# Altium integrated library NSC Interface.IntLib: 481 symbols (part 1 of 16)
Pins are listed as number, name and electrical type; pins without a type are passive.

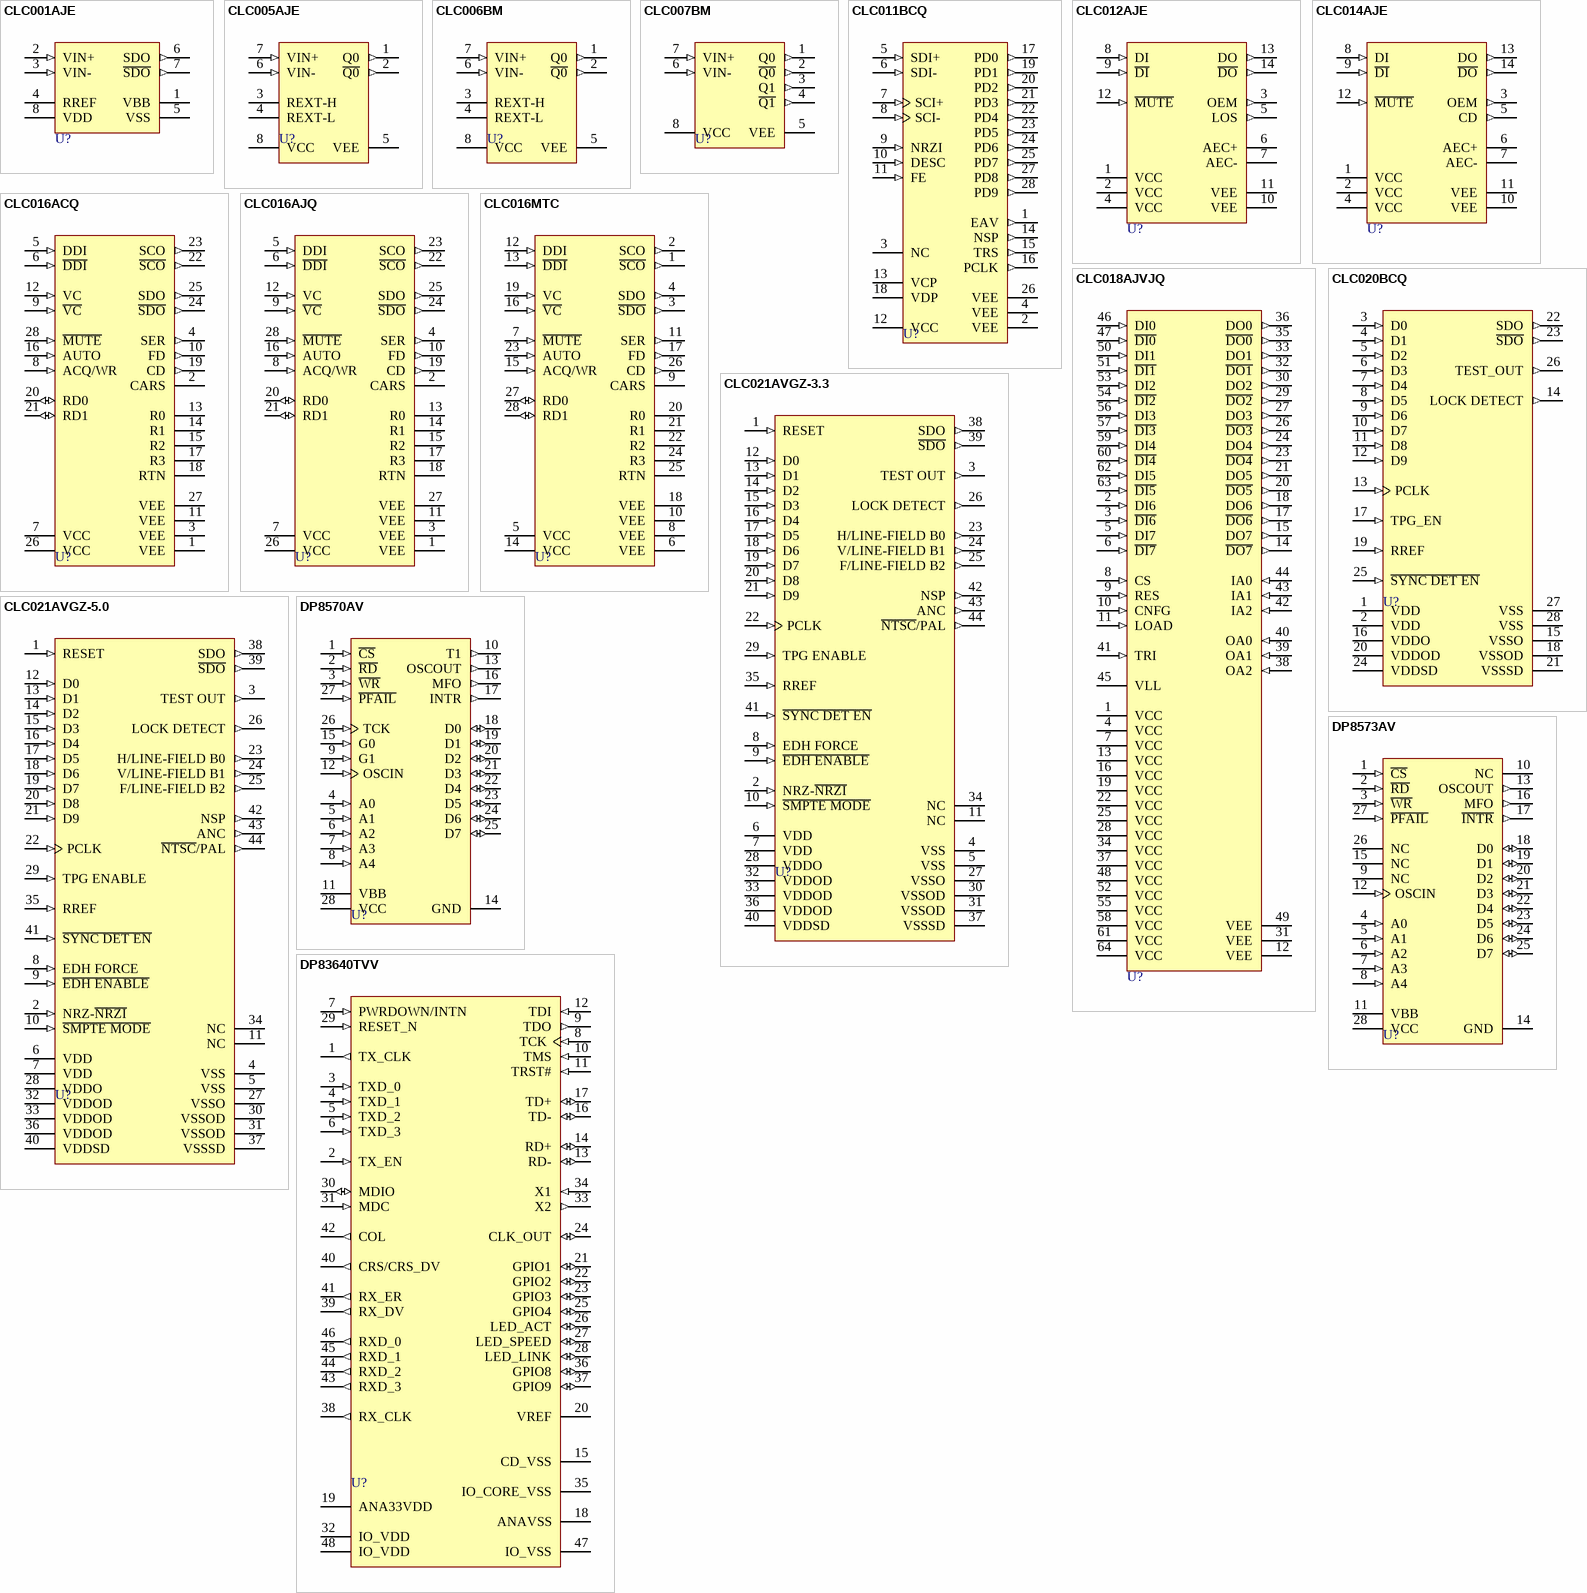
[diagram p0: symbols CLC001AJE to DP83640TVV]

## CLC001AJE
designator U?
Serial Digital Cable Driver with Adjustable Outputs; PartNumber: CLC001AJE; Manufacturer: National Semiconductor; CompType: Interface IC; PackageTopMarking: NSZXTT*CLC00*1AJE; Published: 4-Dec-2008; DatasheetVersion: Feb-2006; PackageVersion: revL, Sep-2006; PackageReference: M08A; Publisher: Altium Limited; PackageDescription: SOIC Narrow, 4.9 x 3.9 x 1.45mm, 8 Lead, 1.27mm Pitch; RoHS: O; PinCount: 8; DigiKeyPartNumber: CLC001AJE-ND; Code_JEDEC: MS-012-AA; Code_IPC: SOIC127P600-8; ComponentLink1Description: CLC001 Datasheet; ComponentLink1URL: http://www.national.com/ds/CL/CLC001.pdf; ComponentLink2Description: CLC001 Web Page; ComponentLink2URL: http://www.national.com/pf/CL/CLC001.html; ComponentLink3Description: M08A Package Page; ComponentLink3URL: http://www.national.com/packaging/folders/m08a.html
footprint M08A_N (SOIC, 8-Leads, Body 4.9x3.9mm, Pitch 1.27mm, IPC Medium Density)
footprint M08A_L (SOIC, 8-Leads, Body 4.9x3.9mm, Pitch 1.27mm, IPC High Density)
footprint M08A_M (SOIC, 8-Leads, Body 4.9x3.9mm, Pitch 1.27mm, IPC Low Density)
pins: 1 VBB (power), 2 VIN+ (in), 3 VIN- (in), 4 RREF, 5 VSS (power), 6 SDO (out), 7 ~{SDO} (out), 8 VDD (power)

## CLC005AJE
designator U?
ITU-T G.703 Cable Driver with Adjustable Outputs; PartNumber: CLC005AJE; Manufacturer: National Semiconductor; CompType: Interface IC; PackageTopMarking: NSZXTT*CLC00*5AJE; Published: 4-Dec-2008; DatasheetVersion: Aug-1998; PackageVersion: revL, Sep-2006; PackageReference: M08A; Publisher: Altium Limited; PackageDescription: SOIC Narrow, 4.9 x 3.9 x 1.45mm, 8 Lead, 1.27mm Pitch; RoHS: O; PinCount: 8; DigiKeyPartNumber: CLC005AJE-ND; Code_JEDEC: MS-012-AA; Code_IPC: SOIC127P600-8; ComponentLink1Description: CLC005 Datasheet; ComponentLink1URL: http://www.national.com/ds/CL/CLC005.pdf; ComponentLink2Description: CLC005 Web Page; ComponentLink2URL: http://www.national.com/pf/CL/CLC005.html; ComponentLink3Description: M08A Package Page; ComponentLink3URL: http://www.national.com/packaging/folders/m08a.html
footprint M08A_N (SOIC, 8-Leads, Body 4.9x3.9mm, Pitch 1.27mm, IPC Medium Density)
footprint M08A_L (SOIC, 8-Leads, Body 4.9x3.9mm, Pitch 1.27mm, IPC High Density)
footprint M08A_M (SOIC, 8-Leads, Body 4.9x3.9mm, Pitch 1.27mm, IPC Low Density)
pins: 1 Q0 (out), 2 ~{Q0} (out), 3 REXT-H, 4 REXT-L, 5 VEE (power), 6 VIN- (in), 7 VIN+ (in), 8 VCC (power)

## CLC006BM
designator U?
Serial Digital Cable Driver with Adjustable Outputs; PartNumber: CLC006BM; Manufacturer: National Semiconductor; CompType: Interface IC; PackageTopMarking: NSZXTT*CLC00*6BMDD; Published: 4-Dec-2008; DatasheetVersion: Oct-2007; PackageVersion: revL, Sep-2006; PackageReference: M08A; Publisher: Altium Limited; PackageDescription: SOIC Narrow, 4.9 x 3.9 x 1.45mm, 8 Lead, 1.27mm Pitch; RoHS: O; PinCount: 8; Code_JEDEC: MS-012-AA; Code_IPC: SOIC127P600-8; ComponentLink1Description: CLC006 Datasheet; ComponentLink1URL: http://www.national.com/ds/CL/CLC006.pdf; ComponentLink2Description: CLC006 Web Page; ComponentLink2URL: http://www.national.com/pf/CL/CLC006.html; ComponentLink3Description: M08A Package Page; ComponentLink3URL: http://www.national.com/packaging/folders/m08a.html
footprint M08A_N (SOIC, 8-Leads, Body 4.9x3.9mm, Pitch 1.27mm, IPC Medium Density)
footprint M08A_L (SOIC, 8-Leads, Body 4.9x3.9mm, Pitch 1.27mm, IPC High Density)
footprint M08A_M (SOIC, 8-Leads, Body 4.9x3.9mm, Pitch 1.27mm, IPC Low Density)
pins: 1 Q0 (out), 2 ~{Q0} (out), 3 REXT-H, 4 REXT-L, 5 VEE (power), 6 VIN- (in), 7 VIN+ (in), 8 VCC (power)

## CLC007BM
designator U?
Serial Digital Cable Driver with Dual Complementary Outputs; PartNumber: CLC007BM; Manufacturer: National Semiconductor; CompType: Interface IC; PackageTopMarking: NSZXTT*CLC00*7BMDD; Published: 4-Dec-2008; DatasheetVersion: Oct-2007; PackageVersion: revL, Sep-2006; PackageReference: M08A; Publisher: Altium Limited; PackageDescription: SOIC Narrow, 4.9 x 3.9 x 1.45mm, 8 Lead, 1.27mm Pitch; RoHS: O; PinCount: 8; DigiKeyPartNumber: CLC007BM-ND; Code_JEDEC: MS-012-AA; Code_IPC: SOIC127P600-8; ComponentLink1Description: CLC007 Datasheet; ComponentLink1URL: http://www.national.com/ds/CL/CLC007.pdf; ComponentLink2Description: CLC007 Web Page; ComponentLink2URL: http://www.national.com/pf/CL/CLC007.html; ComponentLink3Description: M08A Package Page; ComponentLink3URL: http://www.national.com/packaging/folders/m08a.html
footprint M08A_N (SOIC, 8-Leads, Body 4.9x3.9mm, Pitch 1.27mm, IPC Medium Density)
footprint M08A_L (SOIC, 8-Leads, Body 4.9x3.9mm, Pitch 1.27mm, IPC High Density)
footprint M08A_M (SOIC, 8-Leads, Body 4.9x3.9mm, Pitch 1.27mm, IPC Low Density)
pins: 1 Q0 (out), 2 ~{Q0} (out), 3 Q1 (out), 4 ~{Q1} (out), 5 VEE (power), 6 VIN- (in), 7 VIN+ (in), 8 VCC (power)

## CLC011BCQ
designator U?
Serial Digital Video Decoder; PartNumber: CLC011BCQ; Manufacturer: National Semiconductor; CompType: Interface IC; PackageTopMarking: NSUZXYYTT*CLC011BCQ; Published: 4-Dec-2008; DatasheetVersion: Jul-2002; PackageVersion: revK, Dec-1993; PackageReference: V28A; Publisher: Altium Limited; PackageDescription: Plastic Chip Carrier, Sq., .050mil Lead Pitch, 28 Lead; RoHS: O; PinCount: 28; DigiKeyPartNumber: CLC011BCQ-ND; Code_IPC: PLCC-28; ComponentLink1Description: CLC011 Datasheet; ComponentLink1URL: http://www.national.com/ds/CL/CLC011.pdf; ComponentLink2Description: CLC011 Web Page; ComponentLink2URL: http://www.national.com/pf/CL/CLC011.html; ComponentLink3Description: V28A Package Page; ComponentLink3URL: http://www.national.com/packaging/folders/v28a.html
footprint V28A_N (Leaded Chip Carrier, 28-Leads, Body 11.5x11.5mm, Pitch 1.27mm, IPC Medium Density)
footprint V28A_L (Leaded Chip Carrier, 28-Leads, Body 11.5x11.5mm, Pitch 1.27mm, IPC High Density)
footprint V28A_M (Leaded Chip Carrier, 28-Leads, Body 11.5x11.5mm, Pitch 1.27mm, IPC Low Density)
pins: 1 EAV (out), 2 VEE (power), 3 NC, 4 VEE (power), 5 SDI+ (in), 6 SDI- (in), 7 SCI+ (in), 8 SCI- (in), 9 NRZI (in), 10 DESC (in), 11 FE (in), 12 VCC (power), 13 VCP (power), 14 NSP (out), 15 TRS (out), 16 PCLK (out), 17 PD0 (out), 18 VDP (power), 19 PD1 (out), 20 PD2 (out), 21 PD3 (out), 22 PD4 (out), 23 PD5 (out), 24 PD6 (out), 25 PD7 (out), 26 VEE (power), 27 PD8 (out), 28 PD9 (out)

## CLC012AJE
designator U?
Adaptive Cable Equalizer for ITU-T G.703 Data Recovery; PartNumber: CLC012AJE; Manufacturer: National Semiconductor; CompType: Interface IC; PackageTopMarking: NSUZXYTT*CLC012AJE; Published: 4-Dec-2008; DatasheetVersion: Nov-2003; PackageVersion: revJ, Jan-1996; PackageReference: M14A; Publisher: Altium Limited; PackageDescription: Molded Package, S.O., .150in Wide, 14 Lead; RoHS: O; PinCount: 14; DigiKeyPartNumber: CLC012AJE-ND; Code_JEDEC: MS-012AB; Code_IPC: SOIC127P600-14; ComponentLink1Description: CLC012 Datasheet; ComponentLink1URL: http://www.national.com/ds/CL/CLC012.pdf; ComponentLink2Description: CLC012 Web Page; ComponentLink2URL: http://www.national.com/pf/CL/CLC012.html; ComponentLink3Description: M14A Package Page; ComponentLink3URL: http://www.national.com/packaging/folders/m14a.html
footprint M14A_N (SOIC, 14-Leads, Body 8.6x3.9mm, Pitch 1.27mm, IPC Medium Density)
footprint M14A_L (SOIC, 14-Leads, Body 8.6x3.9mm, Pitch 1.27mm, IPC High Density)
footprint M14A_M (SOIC, 14-Leads, Body 8.6x3.9mm, Pitch 1.27mm, IPC Low Density)
pins: 1 VCC (power), 2 VCC (power), 3 OEM (out), 4 VCC (power), 5 LOS (out), 6 AEC+, 7 AEC-, 8 DI (in), 9 ~{DI} (in), 10 VEE (power), 11 VEE (power), 12 ~{MUTE} (in), 13 DO (out), 14 ~{DO} (out)

## CLC014AJE
designator U?
Adaptive Cable Equalizer for High Speed Data Recovery; PartNumber: CLC014AJE; Manufacturer: National Semiconductor; CompType: Interface IC; PackageTopMarking: NSUZXYTT*CLC014AJE; Published: 4-Dec-2008; DatasheetVersion: Aug-2003; PackageVersion: revJ, Jan-1996; PackageReference: M14A; Publisher: Altium Limited; PackageDescription: Molded Package, S.O., .150in Wide, 14 Lead; RoHS: O; PinCount: 14; DigiKeyPartNumber: CLC014AJE-ND; Code_JEDEC: MS-012AB; Code_IPC: SOIC127P600-14; ComponentLink1Description: CLC014 Datasheet; ComponentLink1URL: http://www.national.com/ds/CL/CLC014.pdf; ComponentLink2Description: CLC014 Web Page; ComponentLink2URL: http://www.national.com/pf/CL/CLC014.html; ComponentLink3Description: M14A Package Page; ComponentLink3URL: http://www.national.com/packaging/folders/m14a.html
footprint M14A_N (SOIC, 14-Leads, Body 8.6x3.9mm, Pitch 1.27mm, IPC Medium Density)
footprint M14A_L (SOIC, 14-Leads, Body 8.6x3.9mm, Pitch 1.27mm, IPC High Density)
footprint M14A_M (SOIC, 14-Leads, Body 8.6x3.9mm, Pitch 1.27mm, IPC Low Density)
pins: 1 VCC (power), 2 VCC (power), 3 OEM (out), 4 VCC (power), 5 CD (out), 6 AEC+, 7 AEC-, 8 DI (in), 9 ~{DI} (in), 10 VEE (power), 11 VEE (power), 12 ~{MUTE} (in), 13 DO (out), 14 ~{DO} (out)

## CLC016ACQ
designator U?
Data Retiming PLL with Automatic Rate Selection; PartNumber: CLC016ACQ; Manufacturer: National Semiconductor; CompType: Interface IC; PackageTopMarking: NSUZXYYTT*CLC016ACQ; Published: 4-Dec-2008; DatasheetVersion: Jul-2002; PackageVersion: revK, Dec-1993; PackageReference: V28A; Publisher: Altium Limited; PackageDescription: Plastic Chip Carrier, Sq., .050mil Lead Pitch, 28 Lead; RoHS: O; PinCount: 28; DigiKeyPartNumber: CLC016ACQ-ND; Code_IPC: PLCC-28; ComponentLink1Description: CLC016 Datasheet; ComponentLink1URL: http://www.national.com/ds/CL/CLC016.pdf; ComponentLink2Description: CLC016 Web Page; ComponentLink2URL: http://www.national.com/pf/CL/CLC016.html; ComponentLink3Description: V28A Package Page; ComponentLink3URL: http://www.national.com/packaging/folders/v28a.html
footprint V28A_N (Leaded Chip Carrier, 28-Leads, Body 11.5x11.5mm, Pitch 1.27mm, IPC Medium Density)
footprint V28A_L (Leaded Chip Carrier, 28-Leads, Body 11.5x11.5mm, Pitch 1.27mm, IPC High Density)
footprint V28A_M (Leaded Chip Carrier, 28-Leads, Body 11.5x11.5mm, Pitch 1.27mm, IPC Low Density)
pins: 1 VEE (power), 2 CARS, 3 VEE (power), 4 SER (out), 5 DDI (in), 6 ~{DDI} (in), 7 VCC (power), 8 ACQ/WR (in), 9 ~{VC} (in), 10 FD (out), 11 VEE (power), 12 VC (in), 13 R0, 14 R1, 15 R2, 16 AUTO (in), 17 R3, 18 RTN, 19 CD (out), 20 RD0 (io), 21 RD1 (io), 22 ~{SCO} (out), 23 SCO (out), 24 ~{SDO} (out), 25 SDO (out), 26 VCC (power), 27 VEE (power), 28 ~{MUTE} (in)

## CLC016AJQ
designator U?
Data Retiming PLL with Automatic Rate Selection; PartNumber: CLC016AJQ; Manufacturer: National Semiconductor; CompType: Interface IC; PackageTopMarking: NSUZXYYTT*CLC016AJQ; Published: 4-Dec-2008; DatasheetVersion: Jul-2002; PackageVersion: revK, Dec-1993; PackageReference: V28A; Publisher: Altium Limited; PackageDescription: Plastic Chip Carrier, Sq., .050mil Lead Pitch, 28 Lead; RoHS: O; PinCount: 28; DigiKeyPartNumber: CLC016AJQ-ND; Code_IPC: PLCC-28; ComponentLink1Description: CLC016 Datasheet; ComponentLink1URL: http://www.national.com/ds/CL/CLC016.pdf; ComponentLink2Description: CLC016 Web Page; ComponentLink2URL: http://www.national.com/pf/CL/CLC016.html; ComponentLink3Description: V28A Package Page; ComponentLink3URL: http://www.national.com/packaging/folders/v28a.html
footprint V28A_N (Leaded Chip Carrier, 28-Leads, Body 11.5x11.5mm, Pitch 1.27mm, IPC Medium Density)
footprint V28A_L (Leaded Chip Carrier, 28-Leads, Body 11.5x11.5mm, Pitch 1.27mm, IPC High Density)
footprint V28A_M (Leaded Chip Carrier, 28-Leads, Body 11.5x11.5mm, Pitch 1.27mm, IPC Low Density)
pins: 1 VEE (power), 2 CARS, 3 VEE (power), 4 SER (out), 5 DDI (in), 6 ~{DDI} (in), 7 VCC (power), 8 ACQ/WR (in), 9 ~{VC} (in), 10 FD (out), 11 VEE (power), 12 VC (in), 13 R0, 14 R1, 15 R2, 16 AUTO (in), 17 R3, 18 RTN, 19 CD (out), 20 RD0 (io), 21 RD1 (io), 22 ~{SCO} (out), 23 SCO (out), 24 ~{SDO} (out), 25 SDO (out), 26 VCC (power), 27 VEE (power), 28 ~{MUTE} (in)

## CLC016MTC
designator U?
Data Retiming PLL with Automatic Rate Selection; PartNumber: CLC016MTC; Manufacturer: National Semiconductor; CompType: Interface IC; PackageTopMarking: NSUZXYTT*CLC016MTC; Published: 4-Dec-2008; DatasheetVersion: Jul-2002; PackageVersion: revD, Jan-2005; PackageReference: MTC28; Publisher: Altium Limited; PackageDescription: Molded TSSOP, Jedec, 9.7 x 4.4 x 0.9mm Body, 28 Lead, 0.65mm Pitch; RoHS: O; PinCount: 28; DigiKeyPartNumber: CLC016MTC-ND; Code_JEDEC: MO-153-AE; ComponentLink1Description: CLC016 Datasheet; ComponentLink1URL: http://www.national.com/ds/CL/CLC016.pdf; ComponentLink2Description: CLC016 Web Page; ComponentLink2URL: http://www.national.com/pf/CL/CLC016.html; ComponentLink3Description: MTC28 Package Page; ComponentLink3URL: http://www.national.com/packaging/folders/mtc28.html
footprint MTC28_N (TSOP, 28-Leads, Body 9.7x4.4mm, Pitch 0.65mm, IPC Medium Density)
footprint MTC28_L (TSOP, 28-Leads, Body 9.7x4.4mm, Pitch 0.65mm, IPC High Density)
footprint MTC28_M (TSOP, 28-Leads, Body 9.7x4.4mm, Pitch 0.65mm, IPC Low Density)
pins: 1 ~{SCO} (out), 2 SCO (out), 3 ~{SDO} (out), 4 SDO (out), 5 VCC (power), 6 VEE (power), 7 ~{MUTE} (in), 8 VEE (power), 9 CARS, 10 VEE (power), 11 SER (out), 12 DDI (in), 13 ~{DDI} (in), 14 VCC (power), 15 ACQ/WR (in), 16 ~{VC} (in), 17 FD (out), 18 VEE (power), 19 VC (in), 20 R0, 21 R1, 22 R2, 23 AUTO (in), 24 R3, 25 RTN, 26 CD (out), 27 RD0 (io), 28 RD1 (io)

## CLC018AJVJQ
designator U?
8x8 Digital Crosspoint Switch, 1.4 Gbps; PartNumber: CLC018AJVJQ; Manufacturer: National Semiconductor; CompType: Interface IC; PackageTopMarking: NSUZXYYTT*CLC018AJVJQ; Published: 4-Dec-2008; DatasheetVersion: Aug-2006; PackageVersion: Oct-1998; PackageReference: VJE64A; Publisher: Altium Limited; PackageDescription: LQFP, Jedec, Metric, 14 x 14 x 2.4mm, 64 Lead; RoHS: O; PinCount: 64; DigiKeyPartNumber: CLC018AJVJQ-ND; Code_IPC: QFP80P1720X1720-64; ComponentLink1Description: CLC018 Datasheet; ComponentLink1URL: http://www.national.com/ds/CL/CLC018.pdf; ComponentLink2Description: CLC018 Web Page; ComponentLink2URL: http://www.national.com/pf/CL/CLC018.html; ComponentLink3Description: VJE64A Package Page; ComponentLink3URL: http://www.national.com/packaging/folders/vjq64a.html
footprint VJE64A_N (QFP, 64-Leads, Body 14x14mm, Pitch 0.8mm, IPC Medium Density)
footprint VJE64A_L (QFP, 64-Leads, Body 14x14mm, Pitch 0.8mm, IPC High Density)
footprint VJE64A_M (QFP, 64-Leads, Body 14x14mm, Pitch 0.8mm, IPC Low Density)
pins: 1 VCC (power), 2 DI6 (in), 3 ~{DI6} (in), 4 VCC (power), 5 DI7 (in), 6 ~{DI7} (in), 7 VCC (power), 8 CS (in), 9 RES (in), 10 CNFG (in), 11 LOAD (in), 12 VEE (power), 13 VCC (power), 14 ~{DO7} (out), 15 DO7 (out), 16 VCC (power), 17 ~{DO6} (out), 18 DO6 (out), 19 VCC (power), 20 ~{DO5} (out), 21 DO5 (out), 22 VCC (power), 23 ~{DO4} (out), 24 DO4 (out), 25 VCC (power), 26 ~{DO3} (out), 27 DO3 (out), 28 VCC (power), 29 ~{DO2} (out), 30 DO2 (out), 31 VEE (power), 32 ~{DO1} (out), 33 DO1 (out), 34 VCC (power), 35 ~{DO0} (out), 36 DO0 (out), 37 VCC (power), 38 OA2 (in), 39 OA1 (in), 40 OA0 (in), 41 TRI (in), 42 IA2 (in), 43 IA1 (in), 44 IA0 (in), 45 VLL (power), 46 DI0 (in), 47 ~{DI0} (in), 48 VCC (power), 49 VEE (power), 50 DI1 (in), 51 ~{DI1} (in), 52 VCC (power), 53 DI2 (in), 54 ~{DI2} (in), 55 VCC (power), 56 DI3 (in), 57 ~{DI3} (in), 58 VCC (power), 59 DI4 (in), 60 ~{DI4} (in), 61 VCC (power), 62 DI5 (in), 63 ~{DI5} (in), 64 VCC (power)

## CLC020BCQ
designator U?
SMPTE 259M Digital Video Serializer with Integrated Cable Driver; PartNumber: CLC020BCQ; Manufacturer: National Semiconductor; CompType: Interface IC; PackageTopMarking: NSUZXYYTT*CLC020BCQ; Published: 4-Dec-2008; DatasheetVersion: Jul-2003; PackageVersion: revK, Dec-1993; PackageReference: V28A; Publisher: Altium Limited; PackageDescription: Plastic Chip Carrier, Sq., .050mil Lead Pitch, 28 Lead; RoHS: O; PinCount: 28; DigiKeyPartNumber: CLC020BCQ-ND; Code_IPC: PLCC-28; ComponentLink1Description: CLC020 Datasheet; ComponentLink1URL: http://www.national.com/ds/CL/CLC020.pdf; ComponentLink2Description: CLC020 Web Page; ComponentLink2URL: http://www.national.com/pf/CL/CLC020.html; ComponentLink3Description: V28A Package Page; ComponentLink3URL: http://www.national.com/packaging/folders/v28a.html
footprint V28A_N (Leaded Chip Carrier, 28-Leads, Body 11.5x11.5mm, Pitch 1.27mm, IPC Medium Density)
footprint V28A_L (Leaded Chip Carrier, 28-Leads, Body 11.5x11.5mm, Pitch 1.27mm, IPC High Density)
footprint V28A_M (Leaded Chip Carrier, 28-Leads, Body 11.5x11.5mm, Pitch 1.27mm, IPC Low Density)
pins: 1 VDD (power), 2 VDD (power), 3 D0 (in), 4 D1 (in), 5 D2 (in), 6 D3 (in), 7 D4 (in), 8 D5 (in), 9 D6 (in), 10 D7 (in), 11 D8 (in), 12 D9 (in), 13 PCLK (in), 14 LOCK DETECT (out), 15 VSSO (power), 16 VDDO (power), 17 TPG_EN (in), 18 VSSOD (power), 19 RREF (in), 20 VDDOD (power), 21 VSSSD (power), 22 SDO (out), 23 ~{SDO} (out), 24 VDDSD (power), 25 ~{SYNC DET EN} (in), 26 TEST_OUT (out), 27 VSS (power), 28 VSS (power)

## CLC021AVGZ-3.3
designator U?
SMPTE 259M Digital Video Serializer with EDH Generation/Insertion; PartNumber: CLC021AVGZ-3.3; Manufacturer: National Semiconductor; CompType: Interface IC; PackageTopMarking: NSUZXYYTT*CLC021A*VGZ-3.3; Published: 4-Dec-2008; DatasheetVersion: Jul-2003; PackageVersion: revE, Feb-2003; PackageReference: VGZ44A; Publisher: Altium Limited; PackageDescription: PQFP, JEDEC Metric, (S), 10 x 10 x 2.0mm Body, 44 Lead; RoHS: O; PinCount: 44; DigiKeyPartNumber: CLC021AVGZ-3.3-ND; Code_JEDEC: MO-108-AA-1; Code_IPC: QFP80P1320X1320-44; ComponentLink1Description: CLC021 Datasheet; ComponentLink1URL: http://www.national.com/ds/CL/CLC021.pdf; ComponentLink2Description: CLC021 Web Page; ComponentLink2URL: http://www.national.com/pf/CL/CLC021.html; ComponentLink3Description: VGZ44A Package Page; ComponentLink3URL: http://www.national.com/packaging/folders/vgz44a.html
footprint VGZ44A_N (QFP, 44-Leads, Body 10x10mm, Pitch 0.8mm, IPC Medium Density)
footprint VGZ44A_L (QFP, 44-Leads, Body 10x10mm, Pitch 0.8mm, IPC High Density)
footprint VGZ44A_M (QFP, 44-Leads, Body 10x10mm, Pitch 0.8mm, IPC Low Density)
pins: 1 RESET (in), 2 NRZ-~{NRZI} (in), 3 TEST OUT (out), 4 VSS (power), 5 VSS (power), 6 VDD (power), 7 VDD (power), 8 EDH FORCE (in), 9 ~{EDH ENABLE} (in), 10 ~{SMPTE MODE} (in), 11 NC, 12 D0 (in), 13 D1 (in), 14 D2 (in), 15 D3 (in), 16 D4 (in), 17 D5 (in), 18 D6 (in), 19 D7 (in), 20 D8 (in), 21 D9 (in), 22 PCLK (in), 23 H/LINE-FIELD B0 (out), 24 V/LINE-FIELD B1 (out), 25 F/LINE-FIELD B2 (out), 26 LOCK DETECT (out), 27 VSSO (power), 28 VDDO (power), 29 TPG ENABLE (in), 30 VSSOD (power), 31 VSSOD (power), 32 VDDOD (power), 33 VDDOD (power), 34 NC, 35 RREF (in), 36 VDDOD (power), 37 VSSSD (power), 38 SDO (out), 39 ~{SDO} (out), 40 VDDSD (power), 41 ~{SYNC DET EN} (in), 42 NSP (out), 43 ANC (out), 44 ~{NTSC}/PAL (out)

## CLC021AVGZ-5.0
designator U?
SMPTE 259M Digital Video Serializer with EDH Generation/Insertion; PartNumber: CLC021AVGZ-5.0; Manufacturer: National Semiconductor; CompType: Interface IC; PackageTopMarking: NSUZXYYTT*CLC021A*VGZ-5.0; Published: 4-Dec-2008; DatasheetVersion: Jul-2003; PackageVersion: revE, Feb-2003; PackageReference: VGZ44A; Publisher: Altium Limited; PackageDescription: PQFP, JEDEC Metric, (S), 10 x 10 x 2.0mm Body, 44 Lead; RoHS: Y; PinCount: 44; DigiKeyPartNumber: CLC021AVGZ-5.0-ND; Code_JEDEC: MO-108-AA-1; Code_IPC: QFP80P1320X1320-44; ComponentLink1Description: CLC021 Datasheet; ComponentLink1URL: http://www.national.com/ds/CL/CLC021.pdf; ComponentLink2Description: CLC021 Web Page; ComponentLink2URL: http://www.national.com/pf/CL/CLC021.html; ComponentLink3Description: VGZ44A Package Page; ComponentLink3URL: http://www.national.com/packaging/folders/vgz44a.html
footprint VGZ44A_N (QFP, 44-Leads, Body 10x10mm, Pitch 0.8mm, IPC Medium Density)
footprint VGZ44A_L (QFP, 44-Leads, Body 10x10mm, Pitch 0.8mm, IPC High Density)
footprint VGZ44A_M (QFP, 44-Leads, Body 10x10mm, Pitch 0.8mm, IPC Low Density)
pins: 1 RESET (in), 2 NRZ-~{NRZI} (in), 3 TEST OUT (out), 4 VSS (power), 5 VSS (power), 6 VDD (power), 7 VDD (power), 8 EDH FORCE (in), 9 ~{EDH ENABLE} (in), 10 ~{SMPTE MODE} (in), 11 NC, 12 D0 (in), 13 D1 (in), 14 D2 (in), 15 D3 (in), 16 D4 (in), 17 D5 (in), 18 D6 (in), 19 D7 (in), 20 D8 (in), 21 D9 (in), 22 PCLK (in), 23 H/LINE-FIELD B0 (out), 24 V/LINE-FIELD B1 (out), 25 F/LINE-FIELD B2 (out), 26 LOCK DETECT (out), 27 VSSO (power), 28 VDDO (power), 29 TPG ENABLE (in), 30 VSSOD (power), 31 VSSOD (power), 32 VDDOD (power), 33 VDDOD (power), 34 NC, 35 RREF (in), 36 VDDOD (power), 37 VSSSD (power), 38 SDO (out), 39 ~{SDO} (out), 40 VDDSD (power), 41 ~{SYNC DET EN} (in), 42 NSP (out), 43 ANC (out), 44 ~{NTSC}/PAL (out)

## DP8570AV
designator U?
Timer Control Peripheral (TCP); PartNumber: DP8570AV; Manufacturer: National Semiconductor; CompType: Interface IC; PackageTopMarking: NSUZXYYTT*DP8570AV; Published: 4-Dec-2008; DatasheetVersion: May-1993; PackageVersion: revK, Dec-1993; PackageReference: V28A; Publisher: Altium Limited; PackageDescription: Plastic Chip Carrier, Sq., .050mil Lead Pitch, 28 Lead; RoHS: O; PinCount: 28; DigiKeyPartNumber: DP8570AV-ND; Code_IPC: PLCC-28; ComponentLink1Description: DP8570A Datasheet; ComponentLink1URL: http://www.national.com/ds/DP/DP8570A.pdf; ComponentLink2Description: DP8570A Web Page; ComponentLink2URL: http://www.national.com/pf/DP/DP8570A.html; ComponentLink3Description: V28A Package Page; ComponentLink3URL: http://www.national.com/packaging/folders/v28a.html
footprint V28A_N (Leaded Chip Carrier, 28-Leads, Body 11.5x11.5mm, Pitch 1.27mm, IPC Medium Density)
footprint V28A_L (Leaded Chip Carrier, 28-Leads, Body 11.5x11.5mm, Pitch 1.27mm, IPC High Density)
footprint V28A_M (Leaded Chip Carrier, 28-Leads, Body 11.5x11.5mm, Pitch 1.27mm, IPC Low Density)
pins: 1 ~{CS} (in), 2 ~{RD} (in), 3 ~{WR} (in), 4 A0 (in), 5 A1 (in), 6 A2 (in), 7 A3 (in), 8 A4 (in), 9 G1 (in), 10 T1 (out), 11 VBB (power), 12 OSCIN (in), 13 OSCOUT (out), 14 GND (power), 15 G0 (in), 16 MFO (out), 17 INTR (out), 18 D0 (io), 19 D1 (io), 20 D2 (io), 21 D3 (io), 22 D4 (io), 23 D5 (io), 24 D6 (io), 25 D7 (io), 26 TCK (in), 27 ~{PFAIL} (in), 28 VCC (power)

## DP8573AV
designator U?
Real Time Clock (RTC); PartNumber: DP8573AV; Manufacturer: National Semiconductor; CompType: Interface IC; PackageTopMarking: NSUZXYYTT*DP8573AV; Published: 4-Dec-2008; DatasheetVersion: May-1993; PackageVersion: revK, Dec-1993; PackageReference: V28A; Publisher: Altium Limited; PackageDescription: Plastic Chip Carrier, Sq., .050mil Lead Pitch, 28 Lead; RoHS: O; PinCount: 28; DigiKeyPartNumber: DP8573AV-ND; Code_IPC: PLCC-28; ComponentLink1Description: DP8573A Datasheet; ComponentLink1URL: http://www.national.com/ds/DP/DP8573A.pdf; ComponentLink2Description: DP8573A Web Page; ComponentLink2URL: http://www.national.com/pf/DP/DP8573A.html; ComponentLink3Description: V28A Package Page; ComponentLink3URL: http://www.national.com/packaging/folders/v28a.html
footprint V28A_N (Leaded Chip Carrier, 28-Leads, Body 11.5x11.5mm, Pitch 1.27mm, IPC Medium Density)
footprint V28A_L (Leaded Chip Carrier, 28-Leads, Body 11.5x11.5mm, Pitch 1.27mm, IPC High Density)
footprint V28A_M (Leaded Chip Carrier, 28-Leads, Body 11.5x11.5mm, Pitch 1.27mm, IPC Low Density)
pins: 1 ~{CS} (in), 2 ~{RD} (in), 3 ~{WR} (in), 4 A0 (in), 5 A1 (in), 6 A2 (in), 7 A3 (in), 8 A4 (in), 9 NC, 10 NC, 11 VBB (power), 12 OSCIN (in), 13 OSCOUT (out), 14 GND (power), 15 NC, 16 MFO (out), 17 ~{INTR} (out), 18 D0 (io), 19 D1 (io), 20 D2 (io), 21 D3 (io), 22 D4 (io), 23 D5 (io), 24 D6 (io), 25 D7 (io), 26 NC, 27 ~{PFAIL} (in), 28 VCC (power)

## DP83640TVV
designator U?
Precision PHYTER - IEEE® 1588 Precision Time Protocol Transceiver; PartNumber: DP83640TVV; Manufacturer: National Semiconductor; CompType: Interface IC; PackageTopMarking: NSUZXYTT*DP83640*TVV; Published: 4-Dec-2008; DatasheetVersion: Feb-2008; PackageVersion: revE, May-2007; PackageReference: VBH48A; Publisher: Altium Limited; PackageDescription: LQFP, 7 x 7 x 1.4mm, 48 Lead, 0.5mm Pitch; RoHS: O; PinCount: 48; ComponentLink1Description: DP83640 Datasheet; ComponentLink1URL: http://www.national.com/ds/DP/DP83640.pdf; ComponentLink2Description: DP83640 Web Page; ComponentLink2URL: http://www.national.com/pf/DP/DP83640.html; ComponentLink3Description: VBH48A Package Page; ComponentLink3URL: http://www.national.com/packaging/folders/vbh48a.html
footprint VBH48A_N (Thin QFP, 48-Leads, Body 7x7mm, Pitch 0.5mm, IPC Medium Density)
footprint VBH48A_L (Thin QFP, 48-Leads, Body 7x7mm, Pitch 0.5mm, IPC High Density)
footprint VBH48A_M (Thin QFP, 48-Leads, Body 7x7mm, Pitch 0.5mm, IPC Low Density)
pins: 1 TX_CLK (out), 2 TX_EN (in), 3 TXD_0 (in), 4 TXD_1 (in), 5 TXD_2 (in), 6 TXD_3 (in), 7 PWRDOWN/INTN (in), 8 TCK (in), 9 TDO (out), 10 TMS (in), 11 TRST# (in), 12 TDI (in), 13 RD- (io), 14 RD+ (io), 15 CD_VSS (power), 16 TD- (io), 17 TD+ (io), 18 ANAVSS (power), 19 ANA33VDD (power), 20 VREF (power), 21 GPIO1 (io), 22 GPIO2 (io), 23 GPIO3 (io), 24 CLK_OUT (io), 25 GPIO4 (io), 26 LED_ACT (io), 27 LED_SPEED (io), 28 LED_LINK (io), 29 RESET_N (in), 30 MDIO (io), 31 MDC (in), 32 IO_VDD (power), 33 X2 (out), 34 X1 (in), 35 IO_CORE_VSS (power), 36 GPIO8 (io), 37 GPIO9 (io), 38 RX_CLK (out), 39 RX_DV (out), 40 CRS/CRS_DV (out), 41 RX_ER (out), 42 COL (out), 43 RXD_3 (out), 44 RXD_2 (out), 45 RXD_1 (out), 46 RXD_0 (out), 47 IO_VSS (power), 48 IO_VDD (power)

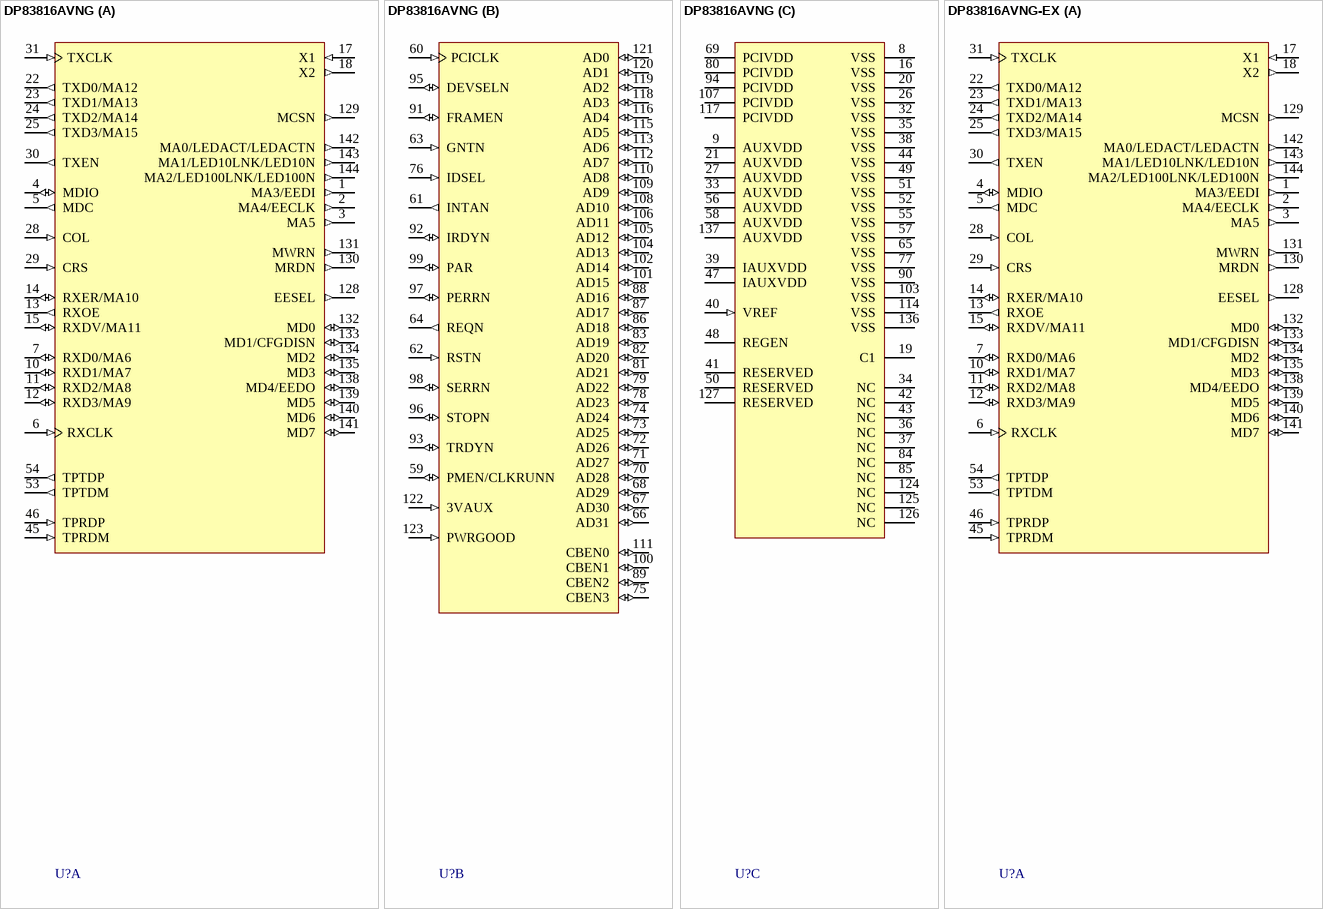
[diagram p1: symbols DP83816AVNG to DP83816AVNG-EX]

## DP83816AVNG
designator U?
10/100 Mb/s Integrated PCI Ethernet Media Access Controller and Physical Layer (MacPhyter-II); PartNumber: DP83816AVNG; Manufacturer: National Semiconductor; CompType: Interface IC; PackageTopMarking: NSUZXYYTTE#*DP83816AVNG; Published: 4-Dec-2008; DatasheetVersion: Sep-2005; PackageVersion: revF, Nov-1999; PackageReference: VNG144A; Publisher: Altium Limited; PackageDescription: LQFP, Jedec, Metric, 20 x 20 x 1.4mm, 144 Lead; RoHS: O; PinCount: 144; DigiKeyPartNumber: DP83816AVNG-ND; Code_JEDEC: MS-026-BFB; ComponentLink1Description: DP83816 Datasheet; ComponentLink1URL: http://www.national.com/ds/DP/DP83816.pdf; ComponentLink2Description: DP83816 Web Page; ComponentLink2URL: http://www.national.com/pf/DP/DP83816.html; ComponentLink3Description: VNG144A Package Page; ComponentLink3URL: http://www.national.com/packaging/folders/vng144a.html
footprint VNG144A_N (Thin QFP, 144-Leads, Body 20x20mm, Pitch 0.5mm, IPC Medium Density)
footprint VNG144A_L (Thin QFP, 144-Leads, Body 20x20mm, Pitch 0.5mm, IPC High Density)
footprint VNG144A_M (Thin QFP, 144-Leads, Body 20x20mm, Pitch 0.5mm, IPC Low Density)
part A pins: 1 MA3/EEDI (out), 2 MA4/EECLK (out), 3 MA5 (out), 4 MDIO (io), 5 MDC (out), 6 RXCLK (in), 7 RXD0/MA6 (io), 10 RXD1/MA7 (io), 11 RXD2/MA8 (io), 12 RXD3/MA9 (io), 13 RXOE (out), 14 RXER/MA10 (io), 15 RXDV/MA11 (io), 17 X1 (in), 18 X2 (out), 22 TXD0/MA12 (out), 23 TXD1/MA13 (out), 24 TXD2/MA14 (out), 25 TXD3/MA15 (out), 28 COL (in), 29 CRS (in), 30 TXEN (out), 31 TXCLK (in), 45 TPRDM (in), 46 TPRDP (in), 53 TPTDM (out), 54 TPTDP (out), 128 EESEL (out), 129 MCSN (out), 130 MRDN (out), 131 MWRN (out), 132 MD0 (io), 133 MD1/CFGDISN (io), 134 MD2 (io), 135 MD3 (io), 138 MD4/EEDO (io), 139 MD5 (io), 140 MD6 (io), 141 MD7 (io), 142 MA0/LEDACT/LEDACTN (out), 143 MA1/LED10LNK/LED10N (out), 144 MA2/LED100LNK/LED100N (out)
part B pins: 59 PMEN/CLKRUNN (io), 60 PCICLK (in), 61 INTAN (out), 62 RSTN (in), 63 GNTN (in), 64 REQN (out), 66 AD31 (io), 67 AD30 (io), 68 AD29 (io), 70 AD28 (io), 71 AD27 (io), 72 AD26 (io), 73 AD25 (io), 74 AD24 (io), 75 CBEN3 (io), 76 IDSEL (in), 78 AD23 (io), 79 AD22 (io), 81 AD21 (io), 82 AD20 (io), 83 AD19 (io), 86 AD18 (io), 87 AD17 (io), 88 AD16 (io), 89 CBEN2 (io), 91 FRAMEN (io), 92 IRDYN (io), 93 TRDYN (io), 95 DEVSELN (io), 96 STOPN (io), 97 PERRN (io), 98 SERRN (io), 99 PAR (io), 100 CBEN1 (io), 101 AD15 (io), 102 AD14 (io), 104 AD13 (io), 105 AD12 (io), 106 AD11 (io), 108 AD10 (io), 109 AD9 (io), 110 AD8 (io), 111 CBEN0 (io), 112 AD7 (io), 113 AD6 (io), 115 AD5 (io), 116 AD4 (io), 118 AD3 (io), 119 AD2 (io), 120 AD1 (io), 121 AD0 (io), 122 3VAUX (in), 123 PWRGOOD (in)
part C pins: 8 VSS (power), 9 AUXVDD (power), 16 VSS (power), 19 C1 (power), 20 VSS (power), 21 AUXVDD (power), 26 VSS (power), 27 AUXVDD (power), 32 VSS (power), 33 AUXVDD (power), 34 NC, 35 VSS (power), 36 NC, 37 NC, 38 VSS (power), 39 IAUXVDD (power), 40 VREF (in), 41 RESERVED, 42 NC, 43 NC, 44 VSS (power), 47 IAUXVDD (power), 48 REGEN, 49 VSS (power), 50 RESERVED, 51 VSS (power), 52 VSS (power), 55 VSS (power), 56 AUXVDD (power), 57 VSS (power), 58 AUXVDD (power), 65 VSS (power), 69 PCIVDD (power), 77 VSS (power), 80 PCIVDD (power), 84 NC, 85 NC, 90 VSS (power), 94 PCIVDD (power), 103 VSS (power), 107 PCIVDD (power), 114 VSS (power), 117 PCIVDD (power), 124 NC, 125 NC, 126 NC, 127 RESERVED, 136 VSS (power), 137 AUXVDD (power)

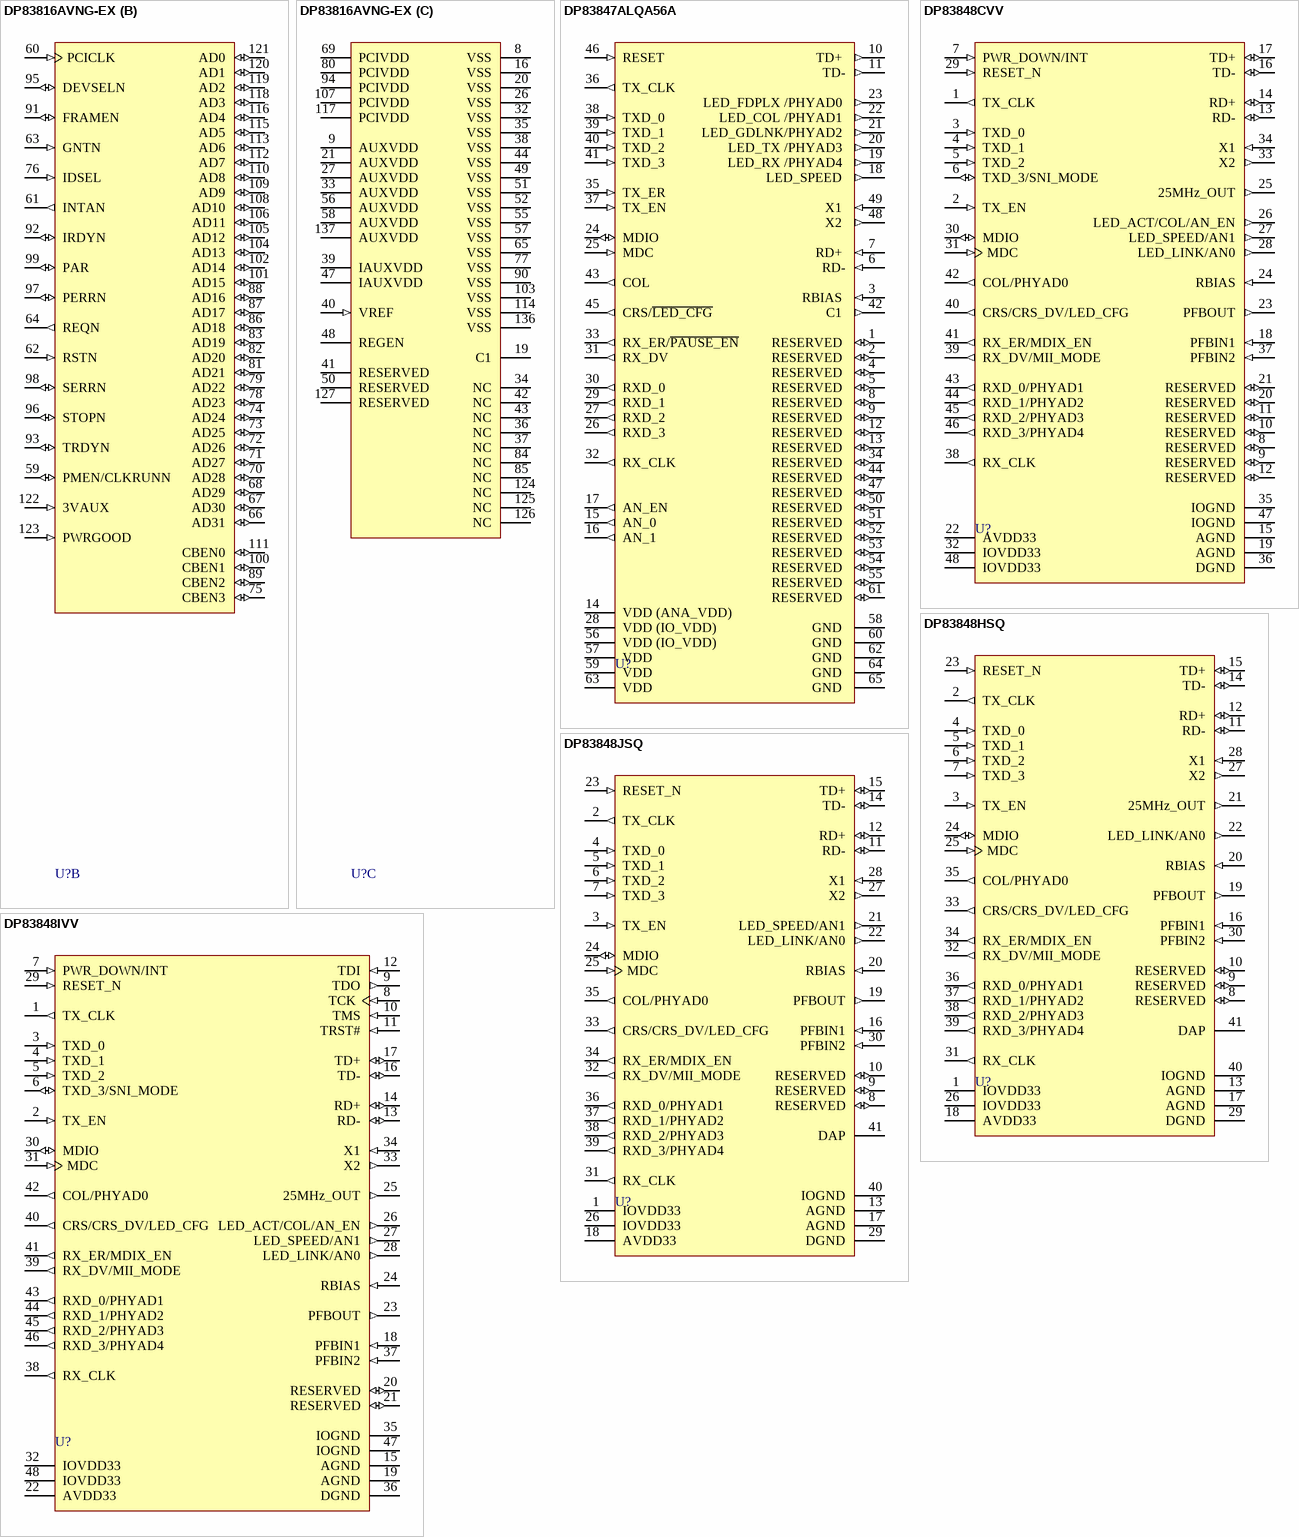
[diagram p2: symbols DP83816AVNG-EX to DP83848JSQ]

## DP83816AVNG-EX
designator U?
10/100 Mb/s Integrated PCI Ethernet Media Access Controller and Physical Layer (MacPhyter-II); PartNumber: DP83816AVNG-EX; Manufacturer: National Semiconductor; CompType: Interface IC; PackageTopMarking: NSUZXYYTTE#*DP83816AVNG-EX; Published: 4-Dec-2008; DatasheetVersion: May-2007; PackageVersion: revF, Nov-1999; PackageReference: VNG144A; Publisher: Altium Limited; PackageDescription: LQFP, Jedec, Metric, 20 x 20 x 1.4mm, 144 Lead; RoHS: Y; PinCount: 144; DigiKeyPartNumber: DP83816AVNG-EX-ND; Code_JEDEC: MS-026-BFB; ComponentLink1Description: DP83816 Datasheet; ComponentLink1URL: http://www.national.com/ds/DP/DP83816EX.pdf; ComponentLink2Description: DP83816 Web Page; ComponentLink2URL: http://www.national.com/pf/DP/DP83816.html; ComponentLink3Description: VNG144A Package Page; ComponentLink3URL: http://www.national.com/packaging/folders/vng144a.html
footprint VNG144A_N (Thin QFP, 144-Leads, Body 20x20mm, Pitch 0.5mm, IPC Medium Density)
footprint VNG144A_L (Thin QFP, 144-Leads, Body 20x20mm, Pitch 0.5mm, IPC High Density)
footprint VNG144A_M (Thin QFP, 144-Leads, Body 20x20mm, Pitch 0.5mm, IPC Low Density)
part A pins: 1 MA3/EEDI (out), 2 MA4/EECLK (out), 3 MA5 (out), 4 MDIO (io), 5 MDC (out), 6 RXCLK (in), 7 RXD0/MA6 (io), 10 RXD1/MA7 (io), 11 RXD2/MA8 (io), 12 RXD3/MA9 (io), 13 RXOE (out), 14 RXER/MA10 (io), 15 RXDV/MA11 (io), 17 X1 (in), 18 X2 (out), 22 TXD0/MA12 (out), 23 TXD1/MA13 (out), 24 TXD2/MA14 (out), 25 TXD3/MA15 (out), 28 COL (in), 29 CRS (in), 30 TXEN (out), 31 TXCLK (in), 45 TPRDM (in), 46 TPRDP (in), 53 TPTDM (out), 54 TPTDP (out), 128 EESEL (out), 129 MCSN (out), 130 MRDN (out), 131 MWRN (out), 132 MD0 (io), 133 MD1/CFGDISN (io), 134 MD2 (io), 135 MD3 (io), 138 MD4/EEDO (io), 139 MD5 (io), 140 MD6 (io), 141 MD7 (io), 142 MA0/LEDACT/LEDACTN (out), 143 MA1/LED10LNK/LED10N (out), 144 MA2/LED100LNK/LED100N (out)
part B pins: 59 PMEN/CLKRUNN (io), 60 PCICLK (in), 61 INTAN (out), 62 RSTN (in), 63 GNTN (in), 64 REQN (out), 66 AD31 (io), 67 AD30 (io), 68 AD29 (io), 70 AD28 (io), 71 AD27 (io), 72 AD26 (io), 73 AD25 (io), 74 AD24 (io), 75 CBEN3 (io), 76 IDSEL (in), 78 AD23 (io), 79 AD22 (io), 81 AD21 (io), 82 AD20 (io), 83 AD19 (io), 86 AD18 (io), 87 AD17 (io), 88 AD16 (io), 89 CBEN2 (io), 91 FRAMEN (io), 92 IRDYN (io), 93 TRDYN (io), 95 DEVSELN (io), 96 STOPN (io), 97 PERRN (io), 98 SERRN (io), 99 PAR (io), 100 CBEN1 (io), 101 AD15 (io), 102 AD14 (io), 104 AD13 (io), 105 AD12 (io), 106 AD11 (io), 108 AD10 (io), 109 AD9 (io), 110 AD8 (io), 111 CBEN0 (io), 112 AD7 (io), 113 AD6 (io), 115 AD5 (io), 116 AD4 (io), 118 AD3 (io), 119 AD2 (io), 120 AD1 (io), 121 AD0 (io), 122 3VAUX (in), 123 PWRGOOD (in)
part C pins: 8 VSS (power), 9 AUXVDD (power), 16 VSS (power), 19 C1 (power), 20 VSS (power), 21 AUXVDD (power), 26 VSS (power), 27 AUXVDD (power), 32 VSS (power), 33 AUXVDD (power), 34 NC, 35 VSS (power), 36 NC, 37 NC, 38 VSS (power), 39 IAUXVDD (power), 40 VREF (in), 41 RESERVED, 42 NC, 43 NC, 44 VSS (power), 47 IAUXVDD (power), 48 REGEN, 49 VSS (power), 50 RESERVED, 51 VSS (power), 52 VSS (power), 55 VSS (power), 56 AUXVDD (power), 57 VSS (power), 58 AUXVDD (power), 65 VSS (power), 69 PCIVDD (power), 77 VSS (power), 80 PCIVDD (power), 84 NC, 85 NC, 90 VSS (power), 94 PCIVDD (power), 103 VSS (power), 107 PCIVDD (power), 114 VSS (power), 117 PCIVDD (power), 124 NC, 125 NC, 126 NC, 127 RESERVED, 136 VSS (power), 137 AUXVDD (power)

## DP83847ALQA56A
designator U?
DsPHYTER II - Single 10/100 Ethernet Transceiver; PartNumber: DP83847ALQA56A; Manufacturer: National Semiconductor; CompType: Interface IC; PackageTopMarking: NS*UZXYTT*83847; Published: 4-Dec-2008; DatasheetVersion: Feb-2002; PackageVersion: revD, Nov-2002; PackageReference: LQA56A; Publisher: Altium Limited; PackageDescription: LLP, Plastic, Quad, 9 x 9 x 0.75mm Body, 56 Lead, 0.5mm Pitch, Ground & Power Rings; RoHS: O; PinCount: 56; DigiKeyPartNumber: DP83847ALQA56A-ND; ComponentLink1Description: DP83847 Datasheet; ComponentLink1URL: http://www.national.com/ds/DP/DP83847.pdf; ComponentLink2Description: DP83847 Web Page; ComponentLink2URL: http://www.national.com/pf/DP/DP83847.html; ComponentLink3Description: LQA56A Package Page; ComponentLink3URL: http://www.national.com/packaging/folders/lqa56a.html
footprint LQA56A (PQFN, 56-Leads, Body 9x9mm, Pitch 0.5mm, NSC Recommended)
pins: 1 RESERVED  (io), 2 RESERVED  (io), 3 RBIAS  (in), 4 RESERVED  (io), 5 RESERVED  (io), 6 RD- (in), 7 RD+  (in), 8 RESERVED  (io), 9 RESERVED  (io), 10 TD+  (out), 11 TD- (out), 12 RESERVED  (io), 13 RESERVED  (io), 14 VDD (ANA_VDD)  (power), 15 AN_0  (out), 16 AN_1  (out), 17 AN_EN  (out), 18 LED_SPEED  (out), 19 LED_RX /PHYAD4  (out), 20 LED_TX /PHYAD3  (out), 21 LED_GDLNK/PHYAD2  (out), 22 LED_COL /PHYAD1  (out), 23 LED_FDPLX /PHYAD0  (out), 24 MDIO  (io), 25 MDC  (in), 26 RXD_3  (out), 27 RXD_2  (out), 28 VDD (IO_VDD)  (power), 29 RXD_1  (out), 30 RXD_0  (out), 31 RX_DV  (out), 32 RX_CLK  (out), 33 RX_ER/~{PAUSE_EN}  (out), 34 RESERVED  (io), 35 TX_ER  (in), 36 TX_CLK  (out), 37 TX_EN  (in), 38 TXD_0  (in), 39 TXD_1  (in), 40 TXD_2  (in), 41 TXD_3  (in), 42 C1  (out), 43 COL  (out), 44 RESERVED  (io), 45 CRS/~{LED_CFG}  (out), 46 RESET  (in), 47 RESERVED  (io), 48 X2  (out), 49 X1  (in), 50 RESERVED  (io), 51 RESERVED  (io), 52 RESERVED  (io), 53 RESERVED  (io), 54 RESERVED  (io), 55 RESERVED  (io), 56 VDD (IO_VDD)  (power), 57 VDD  (power), 58 GND  (power), 59 VDD  (power), 60 GND  (power), 61 RESERVED  (io), 62 GND  (power), 63 VDD  (power), 64 GND  (power), 65 GND  (power)

## DP83848CVV
designator U?
PHYTER® Commercial Temperature Single Port 10/100 Mb/s Ethernet Physical Layer Transceiver; PartNumber: DP83848CVV; Manufacturer: National Semiconductor; CompType: Interface IC; PackageTopMarking: NSUZXYTT*DP83848VV*VBC; Published: 4-Dec-2008; DatasheetVersion: Feb-2007; PackageVersion: revE, May-2007; PackageReference: VBH48A; Publisher: Altium Limited; PackageDescription: LQFP, 7 x 7 x 1.4mm, 48 Lead, 0.5mm Pitch; RoHS: Y; PinCount: 48; DigiKeyPartNumber: DP83848CVV-ND; ComponentLink1Description: DP83848C Datasheet; ComponentLink1URL: http://www.national.com/ds/DP/DP83848C.pdf; ComponentLink2Description: DP83848C Web Page; ComponentLink2URL: http://www.national.com/pf/DP/DP83848C.html; ComponentLink3Description: VBH48A Package Page; ComponentLink3URL: http://www.national.com/packaging/folders/vbh48a.html
footprint VBH48A_N (Thin QFP, 48-Leads, Body 7x7mm, Pitch 0.5mm, IPC Medium Density)
footprint VBH48A_L (Thin QFP, 48-Leads, Body 7x7mm, Pitch 0.5mm, IPC High Density)
footprint VBH48A_M (Thin QFP, 48-Leads, Body 7x7mm, Pitch 0.5mm, IPC Low Density)
pins: 1 TX_CLK (out), 2 TX_EN (in), 3 TXD_0 (in), 4 TXD_1 (in), 5 TXD_2 (in), 6 TXD_3/SNI_MODE (io), 7 PWR_DOWN/INT (in), 8 RESERVED (io), 9 RESERVED (io), 10 RESERVED (io), 11 RESERVED (io), 12 RESERVED (io), 13 RD- (io), 14 RD+ (io), 15 AGND (power), 16 TD- (io), 17 TD+ (io), 18 PFBIN1 (in), 19 AGND (power), 20 RESERVED (io), 21 RESERVED (io), 22 AVDD33 (power), 23 PFBOUT (out), 24 RBIAS (in), 25 25MHz_OUT (out), 26 LED_ACT/COL/AN_EN (out), 27 LED_SPEED/AN1 (out), 28 LED_LINK/AN0 (out), 29 RESET_N (in), 30 MDIO (io), 31 MDC (in), 32 IOVDD33 (power), 33 X2 (out), 34 X1 (in), 35 IOGND (power), 36 DGND (power), 37 PFBIN2 (in), 38 RX_CLK (out), 39 RX_DV/MII_MODE (out), 40 CRS/CRS_DV/LED_CFG (out), 41 RX_ER/MDIX_EN (out), 42 COL/PHYAD0 (out), 43 RXD_0/PHYAD1 (out), 44 RXD_1/PHYAD2 (out), 45 RXD_2/PHYAD3 (out), 46 RXD_3/PHYAD4 (out), 47 IOGND (power), 48 IOVDD33 (power)

## DP83848HSQ
designator U?
DP83848H PHYTER® Mini - Extreme Temperature Single 10/100 Ethernet Transceiver; PartNumber: DP83848HSQ; Manufacturer: National Semiconductor; CompType: Interface IC; PackageTopMarking: NS*UZXYTT*83848HSQ; Published: 4-Dec-2008; DatasheetVersion: Oct-2007; PackageVersion: revA, Mar-2004; PackageReference: SQA40B; Publisher: Altium Limited; PackageDescription: LLP, Quad, 6 x 6 x 0.8mm, 40 Lead, Small DAP, 0.5mm Pitch, No Pullback; RoHS: Y; PinCount: 40; DigiKeyPartNumber: DP83848HSQTR-ND; ComponentLink1Description: DP83848H Datasheet; ComponentLink1URL: http://www.national.com/ds/DP/DP83848H.pdf; ComponentLink2Description: DP83848H Web Page; ComponentLink2URL: http://www.national.com/pf/DP/DP83848H.html; ComponentLink3Description: SQA40B Package Page; ComponentLink3URL: http://www.national.com/packaging/folders/sqa40b.html
footprint SQA40B (QFN, 40-Leads, Body 6x6mm, Pitch 0.5mm, NSC Recommended)
pins: 1 IOVDD33 (power), 2 TX_CLK (out), 3 TX_EN (in), 4 TXD_0 (in), 5 TXD_1 (in), 6 TXD_2 (in), 7 TXD_3 (in), 8 RESERVED (io), 9 RESERVED (io), 10 RESERVED (io), 11 RD- (io), 12 RD+ (io), 13 AGND (power), 14 TD- (io), 15 TD+ (io), 16 PFBIN1 (in), 17 AGND (power), 18 AVDD33 (power), 19 PFBOUT (out), 20 RBIAS (in), 21 25MHz_OUT (out), 22 LED_LINK/AN0 (out), 23 RESET_N (in), 24 MDIO (io), 25 MDC (in), 26 IOVDD33 (power), 27 X2 (out), 28 X1 (in), 29 DGND (power), 30 PFBIN2 (in), 31 RX_CLK (out), 32 RX_DV/MII_MODE (out), 33 CRS/CRS_DV/LED_CFG (out), 34 RX_ER/MDIX_EN (out), 35 COL/PHYAD0 (out), 36 RXD_0/PHYAD1 (out), 37 RXD_1/PHYAD2 (out), 38 RXD_2/PHYAD3 (out), 39 RXD_3/PHYAD4 (out), 40 IOGND (power), 41 DAP

## DP83848IVV
designator U?
PHYTER® Industrial Temperature Single Port 10/100 Mb/s Ethernet Physical Layer Transceiver; PartNumber: DP83848IVV; Manufacturer: National Semiconductor; CompType: Interface IC; PackageTopMarking: NSUZXYTT*DP83848VV*VBI; Published: 4-Dec-2008; DatasheetVersion: Feb-2007; PackageVersion: revE, May-2007; PackageReference: VBH48A; Publisher: Altium Limited; PackageDescription: LQFP, 7 x 7 x 1.4mm, 48 Lead, 0.5mm Pitch; RoHS: Y; PinCount: 48; DigiKeyPartNumber: DP83848IVV-ND; ComponentLink1Description: DP83848I Datasheet; ComponentLink1URL: http://www.national.com/ds/DP/DP83848I.pdf; ComponentLink2Description: DP83848I Web Page; ComponentLink2URL: http://www.national.com/pf/DP/DP83848I.html; ComponentLink3Description: VBH48A Package Page; ComponentLink3URL: http://www.national.com/packaging/folders/vbh48a.html
footprint VBH48A_N (Thin QFP, 48-Leads, Body 7x7mm, Pitch 0.5mm, IPC Medium Density)
footprint VBH48A_L (Thin QFP, 48-Leads, Body 7x7mm, Pitch 0.5mm, IPC High Density)
footprint VBH48A_M (Thin QFP, 48-Leads, Body 7x7mm, Pitch 0.5mm, IPC Low Density)
pins: 1 TX_CLK (out), 2 TX_EN (in), 3 TXD_0 (in), 4 TXD_1 (in), 5 TXD_2 (in), 6 TXD_3/SNI_MODE (io), 7 PWR_DOWN/INT (in), 8 TCK (in), 9 TDO (out), 10 TMS (in), 11 TRST# (in), 12 TDI (in), 13 RD- (io), 14 RD+ (io), 15 AGND (power), 16 TD- (io), 17 TD+ (io), 18 PFBIN1 (in), 19 AGND (power), 20 RESERVED (io), 21 RESERVED (io), 22 AVDD33 (power), 23 PFBOUT (out), 24 RBIAS (in), 25 25MHz_OUT (out), 26 LED_ACT/COL/AN_EN (out), 27 LED_SPEED/AN1 (out), 28 LED_LINK/AN0 (out), 29 RESET_N (in), 30 MDIO (io), 31 MDC (in), 32 IOVDD33 (power), 33 X2 (out), 34 X1 (in), 35 IOGND (power), 36 DGND (power), 37 PFBIN2 (in), 38 RX_CLK (out), 39 RX_DV/MII_MODE (out), 40 CRS/CRS_DV/LED_CFG (out), 41 RX_ER/MDIX_EN (out), 42 COL/PHYAD0 (out), 43 RXD_0/PHYAD1 (out), 44 RXD_1/PHYAD2 (out), 45 RXD_2/PHYAD3 (out), 46 RXD_3/PHYAD4 (out), 47 IOGND (power), 48 IOVDD33 (power)

## DP83848JSQ
designator U?
PHYTER® Mini LS Commercial Temperature Single Port 10/100 Mb/s Ethernet Transceiver; PartNumber: DP83848JSQ; Manufacturer: National Semiconductor; CompType: Interface IC; PackageTopMarking: NS*UZXYTT*83848JSQ; Published: 4-Dec-2008; DatasheetVersion: Oct-2007; PackageVersion: revA, Mar-2004; PackageReference: SQA40B; Publisher: Altium Limited; PackageDescription: LLP, Quad, 6 x 6 x 0.8mm, 40 Lead, Small DAP, 0.5mm Pitch, No Pullback; RoHS: Y; PinCount: 40; DigiKeyPartNumber: DP83848JSQTR-ND; ComponentLink1Description: DP83848J Datasheet; ComponentLink1URL: http://www.national.com/ds/DP/DP83848J.pdf; ComponentLink2Description: DP83848J Web Page; ComponentLink2URL: http://www.national.com/pf/DP/DP83848J.html; ComponentLink3Description: SQA40B Package Page; ComponentLink3URL: http://www.national.com/packaging/folders/sqa40b.html
footprint SQA40B (QFN, 40-Leads, Body 6x6mm, Pitch 0.5mm, NSC Recommended)
pins: 1 IOVDD33 (power), 2 TX_CLK (out), 3 TX_EN (in), 4 TXD_0 (in), 5 TXD_1 (in), 6 TXD_2 (in), 7 TXD_3 (in), 8 RESERVED (io), 9 RESERVED (io), 10 RESERVED (io), 11 RD- (io), 12 RD+ (io), 13 AGND (power), 14 TD- (io), 15 TD+ (io), 16 PFBIN1 (in), 17 AGND (power), 18 AVDD33 (power), 19 PFBOUT (out), 20 RBIAS (in), 21 LED_SPEED/AN1 (out), 22 LED_LINK/AN0 (out), 23 RESET_N (in), 24 MDIO (io), 25 MDC (in), 26 IOVDD33 (power), 27 X2 (out), 28 X1 (in), 29 DGND (power), 30 PFBIN2 (in), 31 RX_CLK (out), 32 RX_DV/MII_MODE (out), 33 CRS/CRS_DV/LED_CFG (out), 34 RX_ER/MDIX_EN (out), 35 COL/PHYAD0 (out), 36 RXD_0/PHYAD1 (out), 37 RXD_1/PHYAD2 (out), 38 RXD_2/PHYAD3 (out), 39 RXD_3/PHYAD4 (out), 40 IOGND (power), 41 DAP

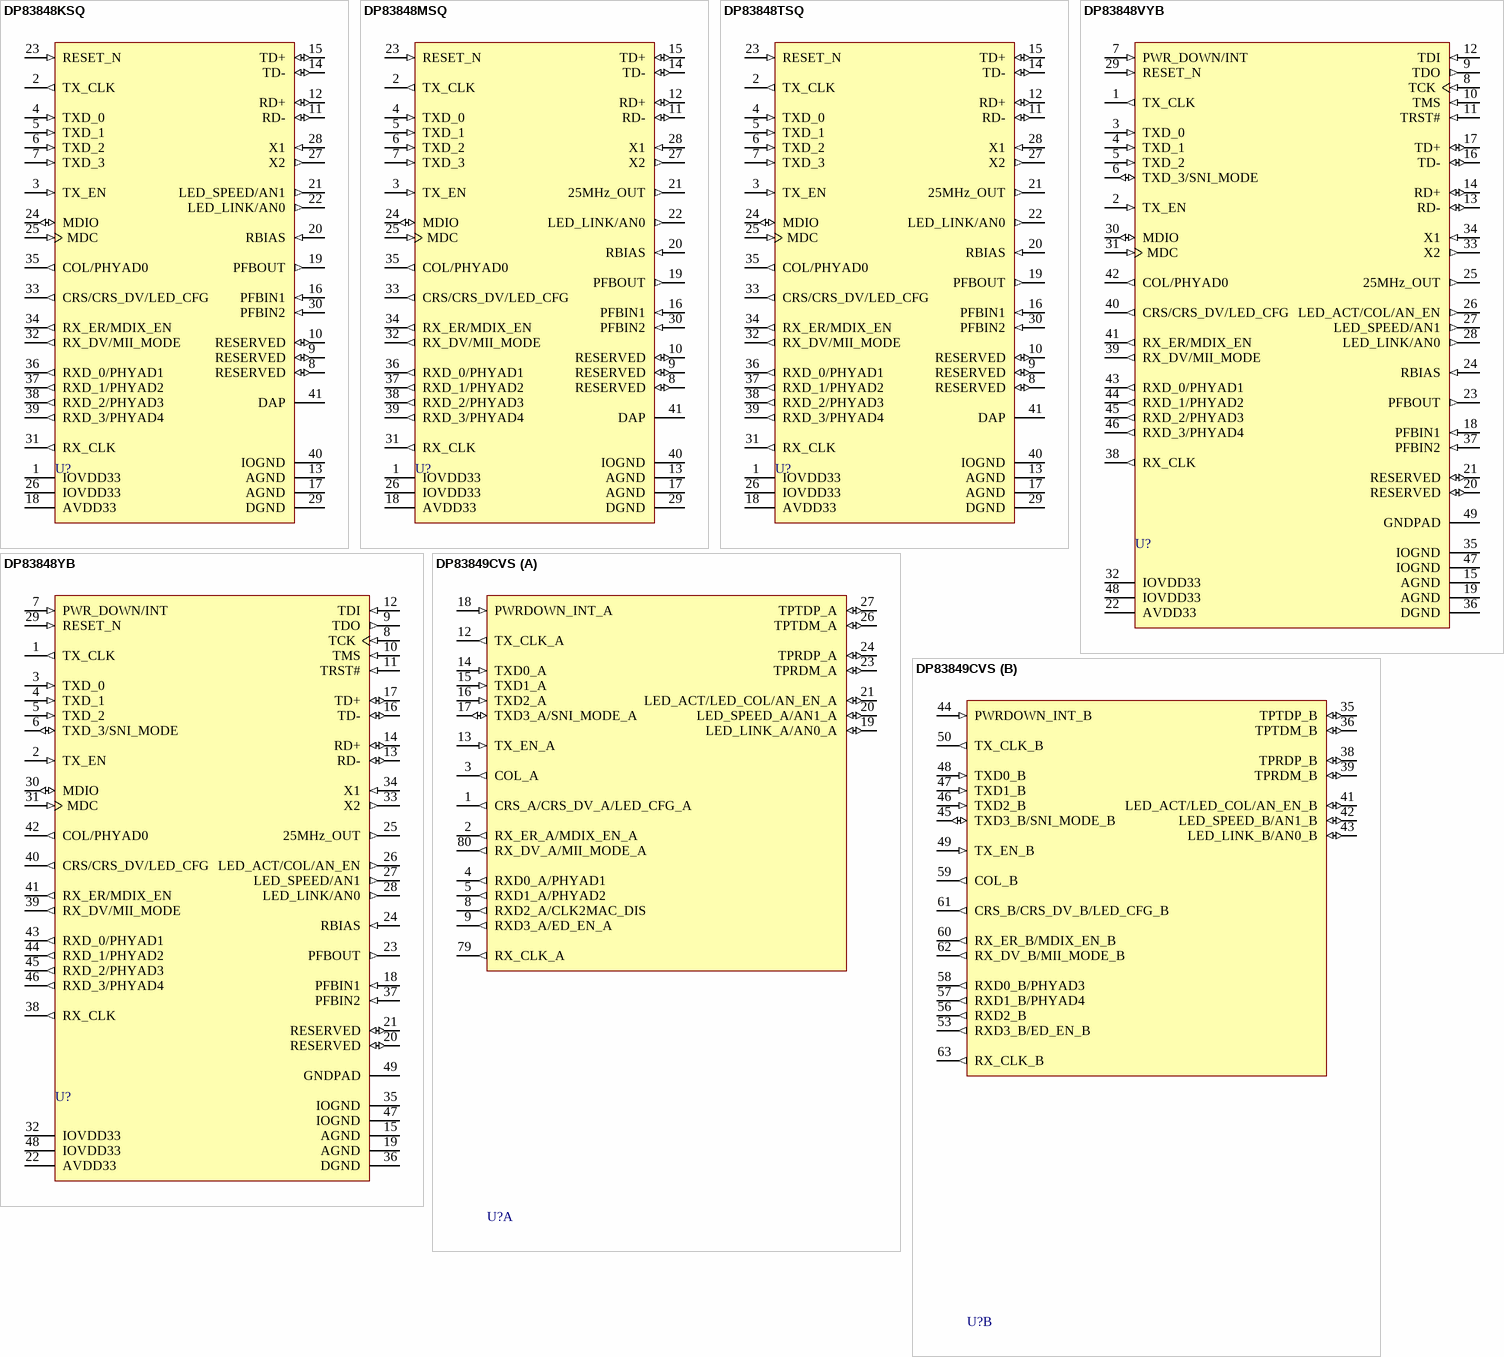
[diagram p3: symbols DP83848KSQ to DP83849CVS]

## DP83848KSQ
designator U?
PHYTER® Mini LS Industrial Temperature Single Port 10/100 Mb/s Ethernet Transceiver; PartNumber: DP83848KSQ; Manufacturer: National Semiconductor; CompType: Interface IC; PackageTopMarking: NS*UZXYTT*83848KSQ; Published: 4-Dec-2008; DatasheetVersion: Oct-2007; PackageVersion: revA, Mar-2004; PackageReference: SQA40B; Publisher: Altium Limited; PackageDescription: LLP, Quad, 6 x 6 x 0.8mm, 40 Lead, Small DAP, 0.5mm Pitch, No Pullback; RoHS: Y; PinCount: 40; DigiKeyPartNumber: DP83848KSQTR-ND; ComponentLink1Description: DP83848K Datasheet; ComponentLink1URL: http://www.national.com/ds/DP/DP83848K.pdf; ComponentLink2Description: DP83848K Web Page; ComponentLink2URL: http://www.national.com/pf/DP/DP83848K.html; ComponentLink3Description: SQA40B Package Page; ComponentLink3URL: http://www.national.com/packaging/folders/sqa40b.html
footprint SQA40B (QFN, 40-Leads, Body 6x6mm, Pitch 0.5mm, NSC Recommended)
pins: 1 IOVDD33 (power), 2 TX_CLK (out), 3 TX_EN (in), 4 TXD_0 (in), 5 TXD_1 (in), 6 TXD_2 (in), 7 TXD_3 (in), 8 RESERVED (io), 9 RESERVED (io), 10 RESERVED (io), 11 RD- (io), 12 RD+ (io), 13 AGND (power), 14 TD- (io), 15 TD+ (io), 16 PFBIN1 (in), 17 AGND (power), 18 AVDD33 (power), 19 PFBOUT (out), 20 RBIAS (in), 21 LED_SPEED/AN1 (out), 22 LED_LINK/AN0 (out), 23 RESET_N (in), 24 MDIO (io), 25 MDC (in), 26 IOVDD33 (power), 27 X2 (out), 28 X1 (in), 29 DGND (power), 30 PFBIN2 (in), 31 RX_CLK (out), 32 RX_DV/MII_MODE (out), 33 CRS/CRS_DV/LED_CFG (out), 34 RX_ER/MDIX_EN (out), 35 COL/PHYAD0 (out), 36 RXD_0/PHYAD1 (out), 37 RXD_1/PHYAD2 (out), 38 RXD_2/PHYAD3 (out), 39 RXD_3/PHYAD4 (out), 40 IOGND (power), 41 DAP

## DP83848MSQ
designator U?
DP83848M PHYTER® Mini - Commercial Temperature Single 10/100 Ethernet Transceiver; PartNumber: DP83848MSQ; Manufacturer: National Semiconductor; CompType: Interface IC; PackageTopMarking: NS*UZXYTT*83848MSQ; Published: 4-Dec-2008; DatasheetVersion: Oct-2007; PackageVersion: revA, Mar-2004; PackageReference: SQA40B; Publisher: Altium Limited; PackageDescription: LLP, Quad, 6 x 6 x 0.8mm, 40 Lead, Small DAP, 0.5mm Pitch, No Pullback; RoHS: Y; PinCount: 40; DigiKeyPartNumber: DP83848MSQTR-ND; ComponentLink1Description: DP83848M Datasheet; ComponentLink1URL: http://www.national.com/ds/DP/DP83848M.pdf; ComponentLink2Description: DP83848M Web Page; ComponentLink2URL: http://www.national.com/pf/DP/DP83848M.html; ComponentLink3Description: SQA40B Package Page; ComponentLink3URL: http://www.national.com/packaging/folders/sqa40b.html
footprint SQA40B (QFN, 40-Leads, Body 6x6mm, Pitch 0.5mm, NSC Recommended)
pins: 1 IOVDD33 (power), 2 TX_CLK (out), 3 TX_EN (in), 4 TXD_0 (in), 5 TXD_1 (in), 6 TXD_2 (in), 7 TXD_3 (in), 8 RESERVED (io), 9 RESERVED (io), 10 RESERVED (io), 11 RD- (io), 12 RD+ (io), 13 AGND (power), 14 TD- (io), 15 TD+ (io), 16 PFBIN1 (in), 17 AGND (power), 18 AVDD33 (power), 19 PFBOUT (out), 20 RBIAS (in), 21 25MHz_OUT (out), 22 LED_LINK/AN0 (out), 23 RESET_N (in), 24 MDIO (io), 25 MDC (in), 26 IOVDD33 (power), 27 X2 (out), 28 X1 (in), 29 DGND (power), 30 PFBIN2 (in), 31 RX_CLK (out), 32 RX_DV/MII_MODE (out), 33 CRS/CRS_DV/LED_CFG (out), 34 RX_ER/MDIX_EN (out), 35 COL/PHYAD0 (out), 36 RXD_0/PHYAD1 (out), 37 RXD_1/PHYAD2 (out), 38 RXD_2/PHYAD3 (out), 39 RXD_3/PHYAD4 (out), 40 IOGND (power), 41 DAP

## DP83848TSQ
designator U?
DP83848T PHYTER® Mini - Industrial Temperature Single 10/100 Ethernet Transceiver; PartNumber: DP83848TSQ; Manufacturer: National Semiconductor; CompType: Interface IC; PackageTopMarking: NS*UZXYTT*83848TSQ; Published: 4-Dec-2008; DatasheetVersion: Oct-2007; PackageVersion: revA, Mar-2004; PackageReference: SQA40B; Publisher: Altium Limited; PackageDescription: LLP, Quad, 6 x 6 x 0.8mm, 40 Lead, Small DAP, 0.5mm Pitch, No Pullback; RoHS: Y; PinCount: 40; DigiKeyPartNumber: DP83848TSQTR-ND; ComponentLink1Description: DP83848T Datasheet; ComponentLink1URL: http://www.national.com/ds/DP/DP83848T.pdf; ComponentLink2Description: DP83848T Web Page; ComponentLink2URL: http://www.national.com/pf/DP/DP83848T.html; ComponentLink3Description: SQA40B Package Page; ComponentLink3URL: http://www.national.com/packaging/folders/sqa40b.html
footprint SQA40B (QFN, 40-Leads, Body 6x6mm, Pitch 0.5mm, NSC Recommended)
pins: 1 IOVDD33 (power), 2 TX_CLK (out), 3 TX_EN (in), 4 TXD_0 (in), 5 TXD_1 (in), 6 TXD_2 (in), 7 TXD_3 (in), 8 RESERVED (io), 9 RESERVED (io), 10 RESERVED (io), 11 RD- (io), 12 RD+ (io), 13 AGND (power), 14 TD- (io), 15 TD+ (io), 16 PFBIN1 (in), 17 AGND (power), 18 AVDD33 (power), 19 PFBOUT (out), 20 RBIAS (in), 21 25MHz_OUT (out), 22 LED_LINK/AN0 (out), 23 RESET_N (in), 24 MDIO (io), 25 MDC (in), 26 IOVDD33 (power), 27 X2 (out), 28 X1 (in), 29 DGND (power), 30 PFBIN2 (in), 31 RX_CLK (out), 32 RX_DV/MII_MODE (out), 33 CRS/CRS_DV/LED_CFG (out), 34 RX_ER/MDIX_EN (out), 35 COL/PHYAD0 (out), 36 RXD_0/PHYAD1 (out), 37 RXD_1/PHYAD2 (out), 38 RXD_2/PHYAD3 (out), 39 RXD_3/PHYAD4 (out), 40 IOGND (power), 41 DAP

## DP83848VYB
designator U?
PHYTER® Extended Temperature Single Port 10/100 Mb/s Ethernet Physical Layer Transceiver; PartNumber: DP83848VYB; Manufacturer: National Semiconductor; CompType: Interface IC; PackageTopMarking: NSUZXYTT*DP83848*VYB; Published: 4-Dec-2008; DatasheetVersion: May-2007; PackageVersion: revA, May-2005; PackageReference: VXH48A; Publisher: Altium Limited; PackageDescription: LQFP, 7 x 7 x 1.4mm, 48 Lead, 0.5mm Pitch, Exposed Pad, 2.2 x 2.2mm; RoHS: Y; PinCount: 48; DigiKeyPartNumber: DP83848VYB-ND; Code_JEDEC: MS-026-ABC; ComponentLink1Description: DP83848VYB Datasheet; ComponentLink1URL: http://www.national.com/ds/DP/DP83848VYB.pdf; ComponentLink2Description: DP83848VYB Web Page; ComponentLink2URL: http://www.national.com/pf/DP/DP83848VYB.html; ComponentLink3Description: VXH48A Package Page; ComponentLink3URL: http://www.national.com/packaging/folders/vxh48a.html
footprint VXH48A_N (Thin QFP, 48-Leads, Body 7x7mm, Pitch 0.5mm, Exposed Pad, IPC Medium Density)
footprint VXH48A_L (Thin QFP, 48-Leads, Body 7x7mm, Pitch 0.5mm, Exposed Pad, IPC High Density)
footprint VXH48A_M (Thin QFP, 48-Leads, Body 7x7mm, Pitch 0.5mm, Exposed Pad, IPC Low Density)
pins: 1 TX_CLK (out), 2 TX_EN (in), 3 TXD_0 (in), 4 TXD_1 (in), 5 TXD_2 (in), 6 TXD_3/SNI_MODE (io), 7 PWR_DOWN/INT (in), 8 TCK (in), 9 TDO (out), 10 TMS (in), 11 TRST# (in), 12 TDI (in), 13 RD- (io), 14 RD+ (io), 15 AGND (power), 16 TD- (io), 17 TD+ (io), 18 PFBIN1 (in), 19 AGND (power), 20 RESERVED (io), 21 RESERVED (io), 22 AVDD33 (power), 23 PFBOUT (out), 24 RBIAS (in), 25 25MHz_OUT (out), 26 LED_ACT/COL/AN_EN (out), 27 LED_SPEED/AN1 (out), 28 LED_LINK/AN0 (out), 29 RESET_N (in), 30 MDIO (io), 31 MDC (in), 32 IOVDD33 (power), 33 X2 (out), 34 X1 (in), 35 IOGND (power), 36 DGND (power), 37 PFBIN2 (in), 38 RX_CLK (out), 39 RX_DV/MII_MODE (out), 40 CRS/CRS_DV/LED_CFG (out), 41 RX_ER/MDIX_EN (out), 42 COL/PHYAD0 (out), 43 RXD_0/PHYAD1 (out), 44 RXD_1/PHYAD2 (out), 45 RXD_2/PHYAD3 (out), 46 RXD_3/PHYAD4 (out), 47 IOGND (power), 48 IOVDD33 (power), 49 GNDPAD (power)